# Altium footprint library button.PcbLib: 1 footprints
Each footprint in its own frame and in the unit in brackets; x right, y up, seen from the top. Pads: shape width x height; smd on the part's side, far side on the other; paste and mask are expansions set on the pad; w line width, h text height; cw(c..) or ccw(c..) is an arc to the next point about the centre after c.
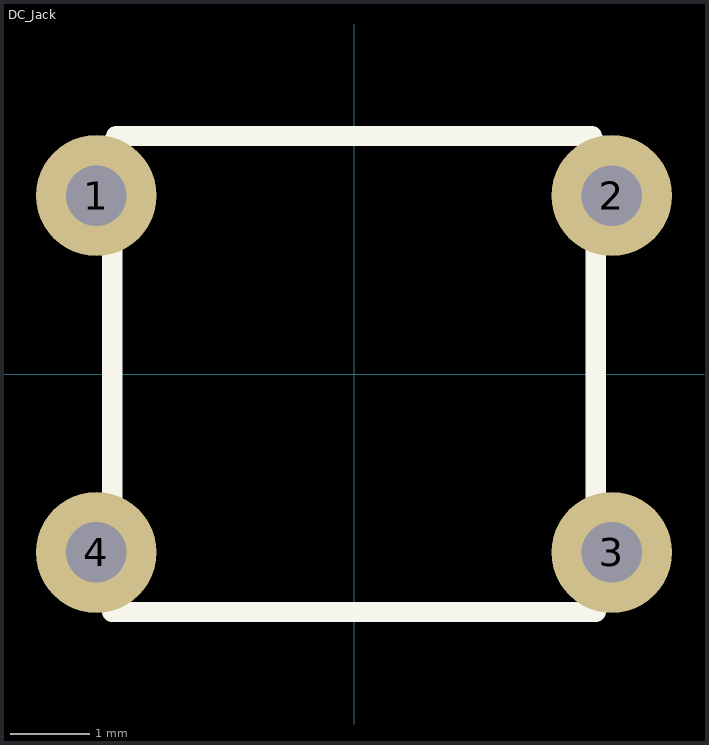
[diagram p0: the footprint, top view; thin cyan lines are the x and y axes]

## DC_Jack [mil]
pads (4):
  round 60 hole 30: 1(-127.95,88.58) 2(127.95,88.58) 3(127.95,-88.58) 4(-127.95,-88.58)
Top Layer:
  lines w10: -120,-118.11 -113.11,-118.11
Top Overlay:
  lines w10: -120,-118.11 -120,115 ; -118.11,-118.11 118.11,-118.11 ; -118.11,118.11 118.11,118.11 ; 120,-118.11 120,115